# EAGLE library part TS-8 (library plib)
8 position screw terminal block
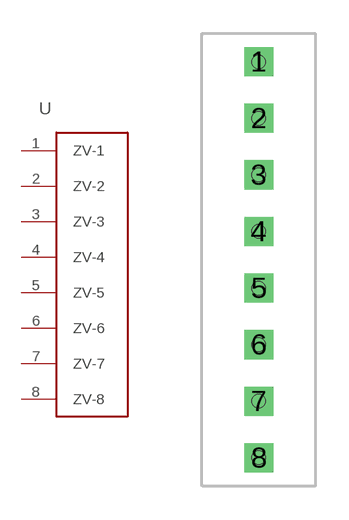
[diagram p0: symbol with the pads of TSTRIP; footprint TSTRIP]

Designator prefix -

## TS-8  [TSTRIP]
1  ZV-1
2  ZV-2
3  ZV-3
4  ZV-4
5  ZV-5
6  ZV-6
7  ZV-7
8  ZV-8

## TS-8TS111  [TSTRIP]

## Footprint TSTRIP (pad centres in mm)
8 position screw terminal block
drill 0.8 square: 1 0,7.62; 2 0,5.08; 3 0,2.54; 4 0,0; 5 0,-2.54; 6 0,-5.08; 7 0,-7.62; 8 0,-10.16
hole 0.6 at 0,7.62
hole 0.6 at 0,5.08
hole 0.6 at 0,2.54
hole 0.6 at 0,0
hole 0.6 at 0,-2.54
hole 0.6 at 0,-5.08
hole 0.6 at 0,-7.62
hole 0.6 at 0,-10.16